# EAGLE library part AD5246* (library NewSDR)
Analog Devices 128-Position I2C Compatible Digital Resistor
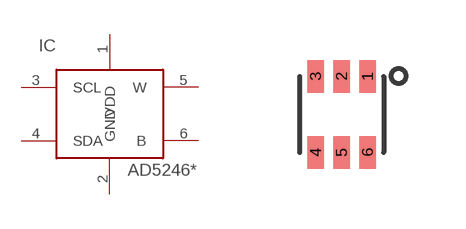
[diagram p35: symbol with the pads of SC-70_M; footprint SC-70_M]

Designator prefix IC

## AD5246BKSZ100  [SC-70_M]
1  VDD  pwr
2  GND  pwr
3  SCL
4  SDA
5  W  pas
6  B  pas

## Footprint SC-70_M (pad centres in mm)
smd 0.406 x 0.813: 1 0.65,0.95; 2 0,0.95; 3 -0.65,0.95; 4 -0.65,-0.95; 5 0,-0.95; 6 0.65,-0.95